# Altium footprint library 器件封装.PCBLIB: 225 footprints (part 12 of 15)
Each footprint in its own frame and in the unit in brackets; x right, y up, seen from the top. Pads: shape width x height; smd on the part's side, far side on the other; paste and mask are expansions set on the pad; w line width, h text height; cw(c..) or ccw(c..) is an arc to the next point about the centre after c.
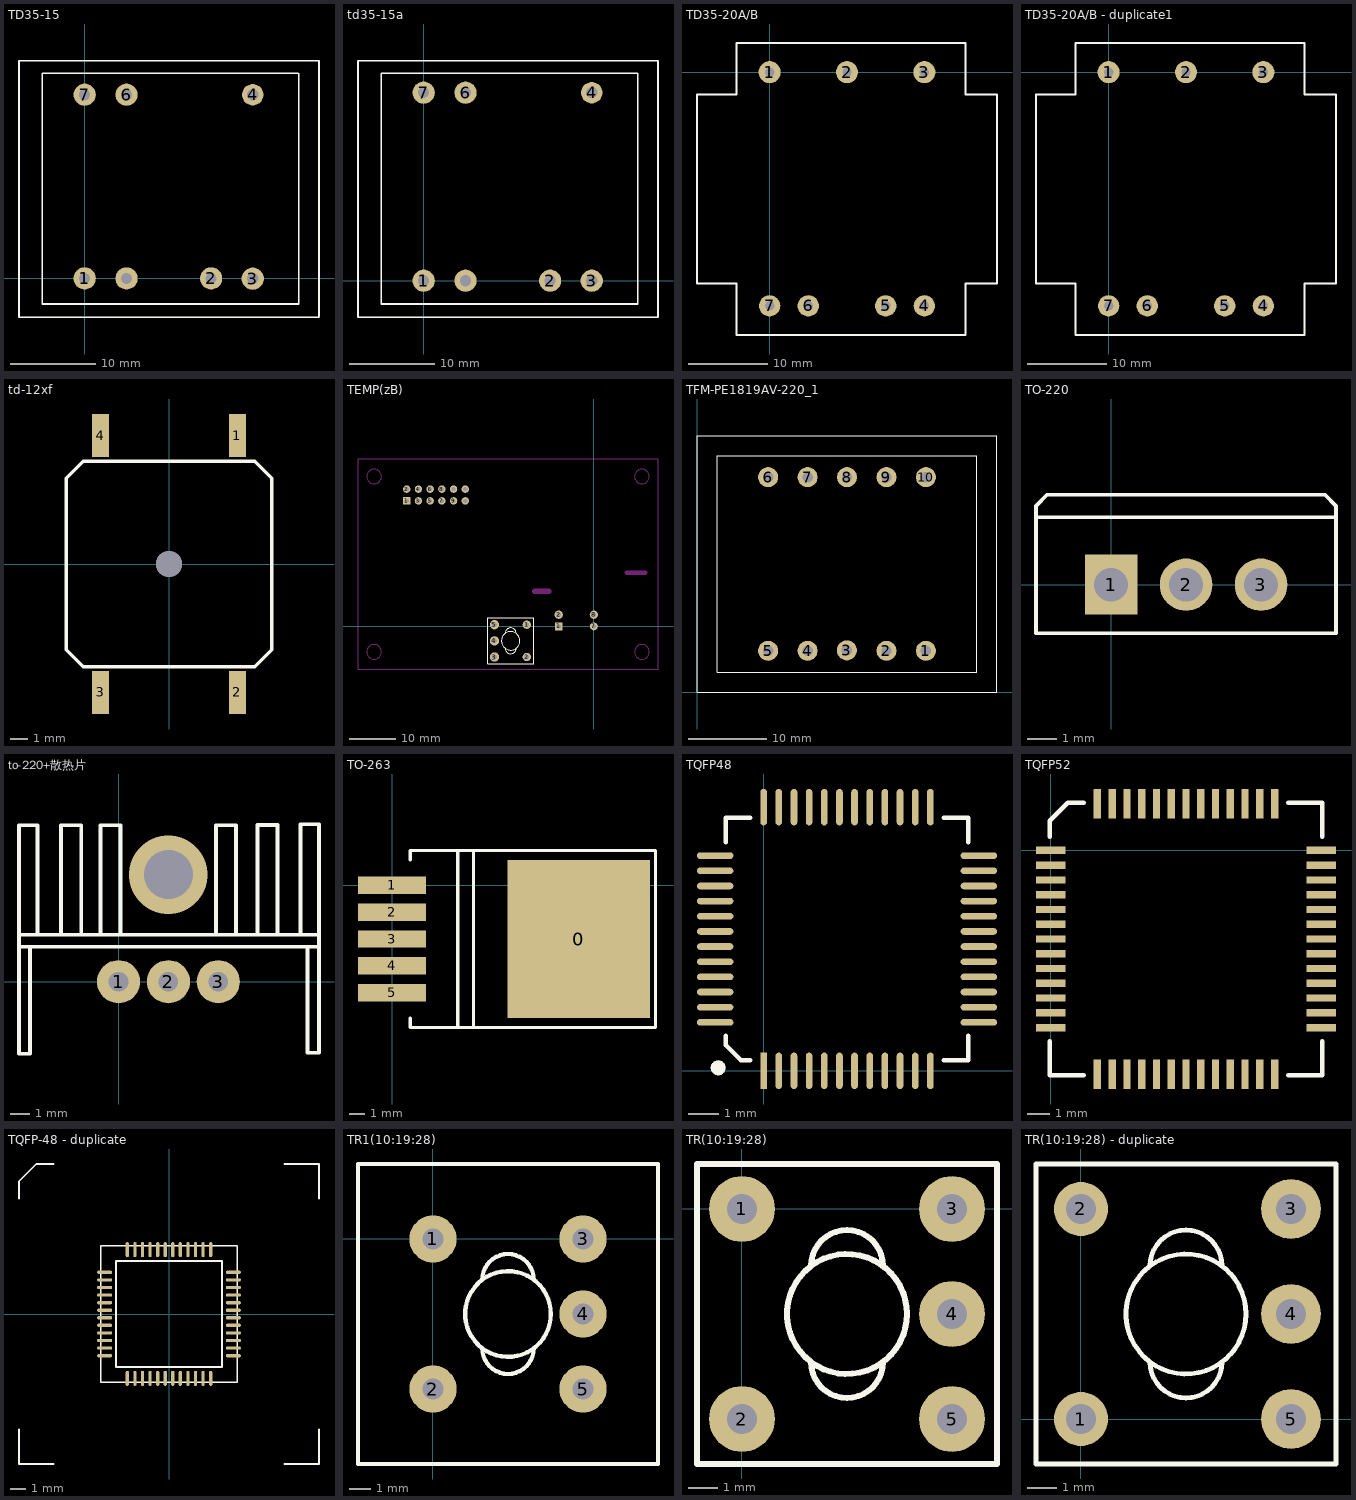
[diagram p11: the footprints below, top view; thin cyan lines are the x and y axes]

## TD35-15 [mm]
pads (8):
  round 2.6 hole 1.3: 1(0,0) 2(14.8,0) 3(19.67,-0.03) 6(4.9,21.49) 7(0,21.49) ""(4.9,0)
  round 2.5 hole 1.3: 4(19.67,21.49)
  round 0 all layers, no hole: 5(14.8,21.49)
TopOverlay:
  lines w0.2: 24.942,24 -4.95,24 -4.95,-3 25.05,-3 25.05,24 ; 27.42,-4.54 -7.68,-4.54 -7.68,25.46 27.42,25.46 27.42,-4.39

## td35-15a [mm]
pads (8):
  round 2.6 hole 1.3: 1(0,0) 2(14.8,0) 3(19.67,0) 6(4.9,22) 7(0,22) ""(4.9,0)
  round 2.5 hole 1.3: 4(19.67,22)
  round 0 all layers, no hole: 5(14.8,22)
TopOverlay:
  lines w0.2: -7.68,-4.27 -7.68,25.73 27.42,25.73 27.42,-4.27 -7.68,-4.27 ; -4.95,-2.73 -4.95,24.27 25.05,24.27 25.05,-2.73 -4.95,-2.73

## TD35-20A/B [mm]
pads (7):
  round 2.8 hole 1.2: 1(0,0) 2(9.8,0) 3(19.6,0)
  round 2.7 hole 1.2: 4(19.6,-29.6) 5(14.7,-29.6) 6(4.9,-29.6) 7(0,-29.6)
TopOverlay:
  lines w0.254: -9.2,-26.8 -9.2,-2.8 -4.2,-2.8 -4.2,3.7 24.8,3.7 24.8,-2.8 28.8,-2.8 28.8,-26.8 24.8,-26.8 24.8,-33.3 -4.2,-33.3 -4.2,-26.8 -9.2,-26.8

## TD35-20A/B - duplicate1 [mm]
pads (7):
  round 2.8 hole 1.2: 1(0,0) 2(9.8,0) 3(19.6,0)
  round 2.7 hole 1.2: 4(19.6,-29.6) 5(14.7,-29.6) 6(4.9,-29.6) 7(0,-29.6)
TopOverlay:
  lines w0.254: -9.2,-26.8 -9.2,-2.8 -4.2,-2.8 -4.2,3.7 24.8,3.7 24.8,-2.8 28.8,-2.8 28.8,-26.8 24.8,-26.8 24.8,-33.3 -4.2,-33.3 -4.2,-26.8 -9.2,-26.8

## td-12xf [mm]
pads (5):
  rect 1x2.524 smd: 1(4,7.5) 2(4,-7.5) 3(-4,-7.5) 4(-4,7.5)
  round 1.524 hole 1.5: ""(0,0)
TopOverlay:
  lines w0.2: -6,-5 -5,-6 5,-6 6,-5 6,5 5,6 -5,6 -6,5 -6,-5

## TEMP(zB) [mm]
pads (21):
  rect 1.6x1.6 hole 0.9: 1(-40.56,27.2)
  round 1.8 hole 1: 1(-14.54,0.37) 2(-14.54,-6.63)
  rect 1.7x1.7 hole 0.9: 1(-7.62,0)
  round 1.6 hole 0.9: 2(-40.56,29.74) 3(-38.02,27.2) 4(-38.02,29.74) 5(-35.48,27.2) 6(-35.48,29.74) 7(-32.94,27.2) 8(-32.94,29.74) 9(-30.4,27.2) 10(-30.4,29.74) 11(-27.86,27.2) 12(-27.86,29.74)
  round 1.8 hole 0.9: 2(-7.62,2.54) 8(0,2.54)
  round 2 hole 1: 3(-21.54,-6.63) 4(-21.54,-3.13) 5(-21.54,0.37)
  round 1.7 hole 0.9: 7(0,0)
TopOverlay:
  circle w0.16: c-18.04,-3.13 r2
  lines w0.16: -19.24,-4.73 ccw(c-18.04,-4.73) -16.84,-4.73 ; -19.24,-1.53 cw(c-18.04,-1.53) -16.84,-1.53 ; -23.04,-8.13 -13.04,-8.13 -13.04,1.87 -23.04,1.87 -23.04,-8.13
BottomOverlay:
  lines w0.305: -41.83,28.47 -39.29,28.47 -39.29,25.93 ; -8.89,1.27 -6.35,1.27 -6.35,-1.27 ; -41.83,25.93 -26.59,25.93 -26.59,31.01 -41.83,31.01 -41.83,25.93 ; -8.89,-1.27 -8.89,3.81 1.27,3.81 1.27,-1.27 -8.89,-1.27
KeepOutLayer:
  circle w0.2: c-47.61,32.47 r1.6
  circle w0.2: c10.39,-5.53 r1.6
  circle w0.2: c10.39,32.47 r1.6
  lines w0.2: -51.11,-9.23 -51.11,36.27 13.89,36.27 13.89,-9.23 -51.11,-9.23
  lines w1: 7.16,11.6 11.16,11.6
  lines w1.2: -12.83,7.57 -9.83,7.57
KeepOutLayer:
  circle w0.2: c-47.61,-5.53 r1.6

## TFM-PE1819AV-220_1 [mil]
pads (10):
  round 100 hole 52: 1(1141.95,206.98) 2(945.1,206.98) 3(747.62,209.42) 4(551.4,206.98) 5(354.55,206.98) 6(354.55,1073.12) 7(551.4,1073.12) 8(748.25,1073.12) 9(945.1,1073.12) 10(1141.95,1073.12)
TopOverlay:
  lines w5.91: 0,0 1496.28,0 1496.28,1279.82 0,1279.82 0,0 ; 100.22,100.29 100.22,1179.82 1396.28,1179.82 1396.28,100.29 100.22,100.29

## TO-220 [mil]
pads (3):
  rect 70x80 hole 45: 1(0,0)
  round 70 hole 45: 2(100,0) 3(200,0)
TopOverlay:
  lines w5: -100,90 300,90 ; -100,-65 300,-65 300,105 285,120 -85,120 -100,105 -100,-65

## to-220+散热片 [mm]
pads (3):
  round 2.2 hole 1: 1(0,0) 2(2.54,0) 3(5.08,0)
via 2.54,5.45 diameter 4 hole 2.5
TopOverlay:
  lines w0.2: -5.07,-3.66 -5.07,7.97 -4.12,7.97 -4.12,2.45 ; -5.07,1.78 10.12,1.78 ; -5.07,2.39 10.18,2.39 ; -5.06,-3.67 -4.52,-3.67 -4.52,1.72 ; -2.92,2.42 -2.92,7.97 ; -2.89,7.97 -1.9,7.97 -1.9,2.44 ; -0.91,2.42 -0.91,7.97 ; -0.88,7.97 0.11,7.97 0.11,2.44 ; 4.97,2.42 4.97,7.97 ; 5,7.97 5.99,7.97 5.99,2.44 ; 7.08,2.44 7.08,7.99 ; 7.11,7.99 8.1,7.99 8.1,2.46 ; 9.27,2.39 9.27,8.02 9.58,8.02 10.21,8.02 10.21,-3.62 9.63,-3.62 ; 9.62,-3.61 9.62,1.75

## TO-263 [mm]
pads (6):
  rect 9x10 smd: 0(11.8,-3.4)
  rect 4.3x1.1 smd: 1(0,0) 2(0,-1.7) 3(0,-3.4) 4(0,-5.1) 5(0,-6.8)
TopOverlay:
  lines w0.2: 1.15,-8.4 1.15,-9 16.65,-9 16.65,2.2 1.15,2.2 1.15,1.6 ; 4.15,-9 4.15,2.2 ; 5.15,-9 5.15,2.2

## TQFP48 [mm]
pads (49):
  rect 0.22x1.2 smd: 1(0,0)
  oval 0.22x1.2 smd: 2(0.5,0) 3(1,0) 4(1.5,0) 5(2,0) 6(2.5,0) 7(3,0) 8(3.5,0) 9(4,0) 10(4.5,0) 11(5,0) 12(5.5,0) 25(5.5,8.7) 26(5,8.7) 27(4.5,8.7) 28(4,8.7) 29(3.5,8.7) 30(3,8.7) 31(2.5,8.7) 32(2,8.7) 33(1.5,8.7) 34(1,8.7) 35(0.5,8.7) 36(0,8.7)
  oval 1.2x0.22 smd: 13(7.1,1.6) 14(7.1,2.1) 15(7.1,2.6) 16(7.1,3.1) 17(7.1,3.6) 18(7.1,4.1) 19(7.1,4.6) 20(7.1,5.1) 21(7.1,5.6) 22(7.1,6.1) 23(7.1,6.6) 24(7.1,7.1) 37(-1.6,7.1) 38(-1.6,6.6) 39(-1.6,6.1) 40(-1.6,5.6) 41(-1.6,5.1) 42(-1.6,4.6) 43(-1.6,4.1) 44(-1.6,3.6) 45(-1.6,3.1) 46(-1.6,2.6) 47(-1.6,2.1) 48(-1.6,1.6)
  round 0.5 on Top Overlay: ""(-1.5,0.1)
TopOverlay:
  lines w0.15: -1.25,1.15 -1.25,0.85 -0.75,0.35 -0.45,0.35 ; -1.25,7.55 -1.25,8.35 -0.45,8.35 ; 5.95,0.35 6.75,0.35 6.75,1.15 ; 5.95,8.35 6.75,8.35 6.75,7.55

## TQFP52 [mm]
pads (52):
  rect 1.3x0.32 smd: 1(0,0) 2(0,-0.65) 3(0,-1.3) 4(0,-1.95) 5(0,-2.6) 6(0,-3.25) 7(0,-3.9) 8(0,-4.55) 9(0,-5.2) 10(0,-5.85) 11(0,-6.5) 12(0,-7.15) 13(0,-7.8) 27(11.9,-7.8) 28(11.9,-7.15) 29(11.9,-6.5) 30(11.9,-5.85) 31(11.9,-5.2) 32(11.9,-4.55) 33(11.9,-3.9) 34(11.9,-3.25) 35(11.9,-2.6) 36(11.9,-1.95) 37(11.9,-1.3) 38(11.9,-0.65) 39(11.9,0)
  rect 0.32x1.3 smd: 14(2.05,-9.85) 15(2.7,-9.85) 16(3.35,-9.85) 17(4,-9.85) 18(4.65,-9.85) 19(5.3,-9.85) 20(5.95,-9.85) 21(6.6,-9.85) 22(7.25,-9.85) 23(7.9,-9.85) 24(8.55,-9.85) 25(9.2,-9.85) 26(9.85,-9.85) 40(9.85,2.05) 41(9.2,2.05) 42(8.55,2.05) 43(7.9,2.05) 44(7.25,2.05) 45(6.6,2.05) 46(5.95,2.05) 47(5.3,2.05) 48(4.65,2.05) 49(4,2.05) 50(3.35,2.05) 51(2.7,2.05) 52(2.05,2.05)
TopOverlay:
  lines w0.2: -0.05,-8.4 -0.05,-9.9 1.45,-9.9 ; -0.05,0.6 -0.05,1.3 0.75,2.1 1.45,2.1 ; 10.45,-9.9 11.95,-9.9 11.95,-8.4 ; 10.45,2.1 11.95,2.1 11.95,0.6

## TQFP-48 - duplicate [mm]
pads (48):
  oval 0.22x1 smd: 1(-2.75,-4.25) 2(-2.25,-4.25) 3(-1.75,-4.25) 4(-1.25,-4.25) 5(-0.75,-4.25) 6(-0.25,-4.25) 7(0.25,-4.25) 8(0.75,-4.25) 9(1.25,-4.25) 10(1.75,-4.25) 11(2.25,-4.25) 12(2.75,-4.25) 25(2.75,4.25) 26(2.25,4.25) 27(1.75,4.25) 28(1.25,4.25) 29(0.75,4.25) 30(0.25,4.25) 31(-0.25,4.25) 32(-0.75,4.25) 33(-1.25,4.25) 34(-1.75,4.25) 35(-2.25,4.25) 36(-2.75,4.25)
  oval 1x0.22 smd: 13(4.25,-2.75) 14(4.25,-2.25) 15(4.25,-1.75) 16(4.25,-1.25) 17(4.25,-0.75) 18(4.25,-0.25) 19(4.25,0.25) 20(4.25,0.75) 21(4.25,1.25) 22(4.25,1.75) 23(4.25,2.25) 24(4.25,2.75) 37(-4.25,2.75) 38(-4.25,2.25) 39(-4.25,1.75) 40(-4.25,1.25) 41(-4.25,0.75) 42(-4.25,0.25) 43(-4.25,-0.25) 44(-4.25,-0.75) 45(-4.25,-1.25) 46(-4.25,-1.75) 47(-4.25,-2.25) 48(-4.25,-2.75)
TopOverlay:
  lines w0.1: -9.906,-7.62 -9.906,-9.906 -7.62,-9.906 ; -9.906,7.62 -9.906,8.763 -8.763,9.906 -7.62,9.906 ; 7.62,-9.906 9.906,-9.906 9.906,-7.62 ; 7.62,9.906 9.906,9.906 9.906,7.62 ; -4.5,-4.5 -4.5,4.5 4.5,4.5 4.5,-4.5 -4.5,-4.5 ; -3.5,-3.5 -3.5,3.5 3.5,3.5 3.5,-3.5 -3.5,-3.5

## TR1(10:19:28) [mm]
pads (5):
  round 2.2 hole 1: 1(0,0) 2(0,-7) 3(7,0) 4(7,-3.5) 5(7,-7)
TopOverlay:
  circle w0.2: c3.5,-3.5 r2
  lines w0.2: 2.3,-5.1 ccw(c3.5,-5.1) 4.7,-5.1 ; 2.3,-1.9 cw(c3.5,-1.9) 4.7,-1.9 ; -3.5,-10.5 -3.5,3.5 10.5,3.5 10.5,-10.5 -3.5,-10.5

## TR(10:19:28) [mm]
pads (5):
  round 2.2 hole 1: 1(0,0) 2(0,-7) 3(7,0) 4(7,-3.5) 5(7,-7)
TopOverlay:
  circle w0.2: c3.5,-3.5 r2
  lines w0.2: 2.3,-5.1 ccw(c3.5,-5.1) 4.7,-5.1 ; 2.3,-1.9 cw(c3.5,-1.9) 4.7,-1.9 ; -1.5,-8.5 8.5,-8.5 8.5,1.5 -1.5,1.5 -1.5,-8.5

## TR(10:19:28) - duplicate [mm]
pads (5):
  round 1.8 hole 1: 1(0,0) 2(0,7)
  round 2 hole 1: 3(7,7) 4(7,3.5) 5(7,0)
TopOverlay:
  circle w0.16: c3.5,3.5 r2
  lines w0.16: 2.3,1.9 ccw(c3.5,1.9) 4.7,1.9 ; 2.3,5.1 cw(c3.5,5.1) 4.7,5.1 ; -1.5,-1.5 -1.5,8.5 8.5,8.5 8.5,-1.5 -1.5,-1.5